# EAGLE library part DE0_NANO (library CONNECTORS)
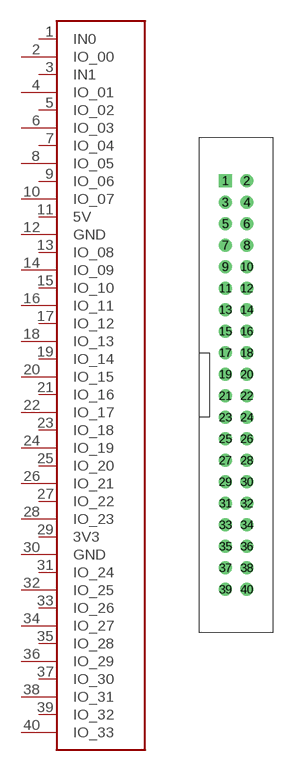
[diagram p4: symbol with the pads of HEADER_20X2_.1; footprint HEADER_20X2_.1]

Designator prefix -

## DE0_NANOPTH  [HEADER_20X2_.1]
1  IN0
2  IO_00
3  IN1
4  IO_01
5  IO_02
6  IO_03
7  IO_04
8  IO_05
9  IO_06
10  IO_07
11  5V
12  GND
13  IO_08
14  IO_09
15  IO_10
16  IO_11
17  IO_12
18  IO_13
19  IO_14
20  IO_15
21  IO_16
22  IO_17
23  IO_18
24  IO_19
25  IO_20
26  IO_21
27  IO_22
28  IO_23
29  3V3
30  GND
31  IO_24
32  IO_25
33  IO_26
34  IO_27
35  IO_28
36  IO_29
37  IO_30
38  IO_31
39  IO_32
40  IO_33

## Footprint HEADER_20X2_.1 (pad centres in mm)
drill 1.02 square: 1 -1.27,24.13
drill 1.02: 2 1.27,24.13; 3 -1.27,21.59; 4 1.27,21.59; 5 -1.27,19.05; 6 1.27,19.05; 7 -1.27,16.51; 8 1.27,16.51; 9 -1.27,13.97; 10 1.27,13.97; 11 -1.27,11.43; 12 1.27,11.43; 13 -1.27,8.89; 14 1.27,8.89; 15 -1.27,6.35; 16 1.27,6.35; 17 -1.27,3.81; 18 1.27,3.81; 19 -1.27,1.27; 20 1.27,1.27; 21 -1.27,-1.27; 22 1.27,-1.27; 23 -1.27,-3.81; 24 1.27,-3.81; 25 -1.27,-6.35; 26 1.27,-6.35; 27 -1.27,-8.89; 28 1.27,-8.89; 29 -1.27,-11.43; 30 1.27,-11.43; 31 -1.27,-13.97; 32 1.27,-13.97; 33 -1.27,-16.51; 34 1.27,-16.51; 35 -1.27,-19.05; 36 1.27,-19.05; 37 -1.27,-21.59; 38 1.27,-21.59; 39 -1.27,-24.13; 40 1.27,-24.13